# Altium footprint library KHOEMACH_PCBLIB.PcbLib: 17 footprints (part 1 of 2)
Each footprint in its own frame and in the unit in brackets; x right, y up, seen from the top. Pads: shape width x height; smd on the part's side, far side on the other; paste and mask are expansions set on the pad; w line width, h text height; cw(c..) or ccw(c..) is an arc to the next point about the centre after c.
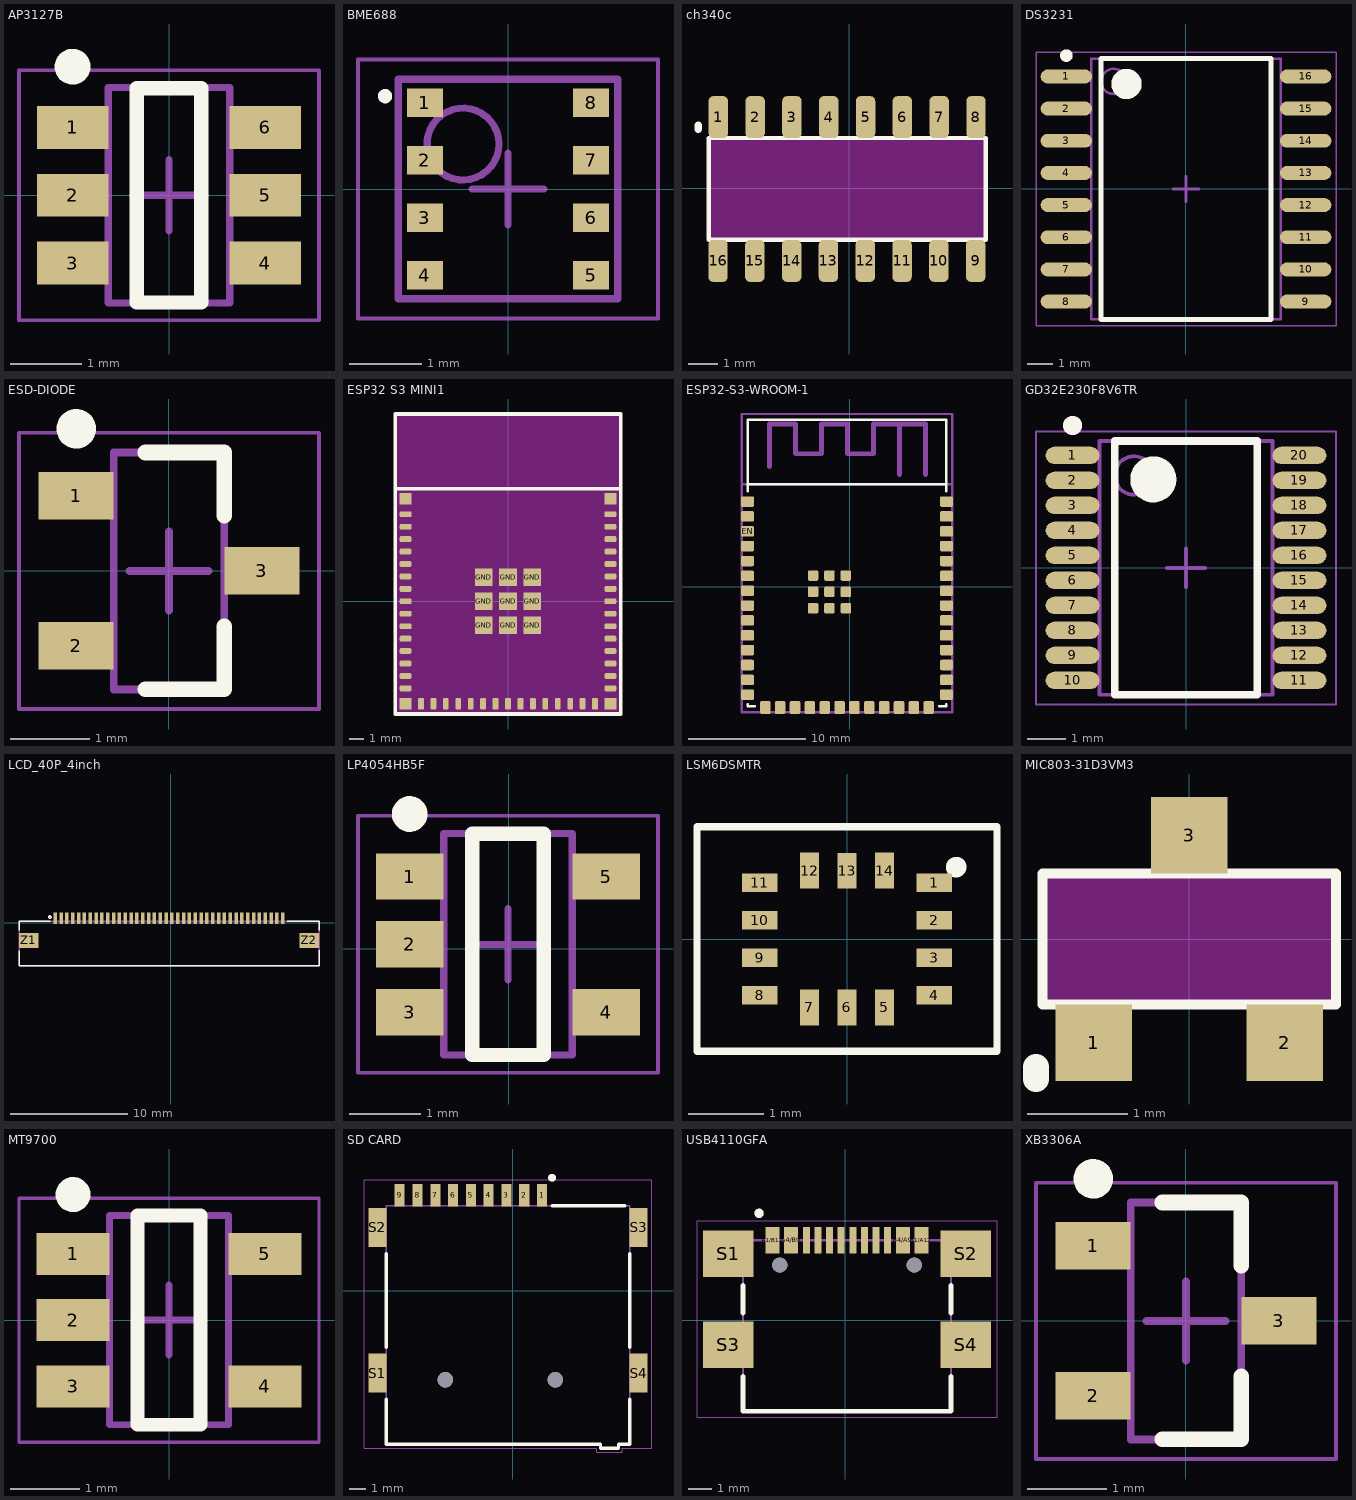
[diagram p0: the footprints below, top view; thin cyan lines are the x and y axes]

## AP3127B [mm] "SOT23, 6-Leads, Body 2,92x2,80mm, Pitch 0,95mm, IPC Medium Density"
height 1.05
pads (6):
  rect 1x0.6 smd: 1(-1.35,0.95) 2(-1.35,0) 3(-1.35,-0.95) 4(1.35,-0.95) 5(1.35,0) 6(1.35,0.95)
Top Overlay:
  circle w0.25: c-1.35,1.8 r0.125
  lines w0.2: -0.45,-1.5 -0.45,1.5 0.45,1.5 0.45,-1.5 -0.45,-1.5
Mechanical 13:
  lines w0.1: -0.85,-1.51 0.85,-1.51 0.85,1.51 -0.85,1.51 -0.85,-1.51
Mechanical 15:
  lines w0.05: -2.1,-1.75 2.1,-1.75 2.1,1.75 -2.1,1.75 -2.1,-1.75
  lines w0.1: -0.5,0 0.5,0 ; 0,-0.5 0,0.5
3D body: height 1.25, standoff 1.05, extent -0.85,-1.51 0.85,1.51
3D body "User Library-SOT-23-6.STEP": height 1.09, standoff 0, extent -1.213,-1.397 1.213,1.397

## BME688 [mm]
pads (8):
  rect 0.5x0.4 smd: 1(-1.163,1.202) 2(-1.163,0.402) 3(-1.163,-0.398) 4(-1.163,-1.198) 5(1.149,-1.198) 6(1.149,-0.398) 7(1.149,0.402) 8(1.149,1.202)
Top Overlay:
  circle w0.1: c-1.715,1.292 r0.05
Mechanical 13:
  circle w0.1: c-0.632,0.627 r0.5
  lines w0.1: -1.532,-1.523 -1.532,1.527 1.518,1.527 1.518,-1.523 -1.532,-1.523
Mechanical 15:
  lines w0.05: -2.092,-1.798 -2.092,1.802 2.078,1.802 2.078,-1.798 -2.092,-1.798
  lines w0.1: -0.507,0.002 0.493,0.002 ; -0.007,-0.498 -0.007,0.502
3D body "User Library-10001378_Bosch_BME688.STEP": height 1, standoff -0.05, extent -1.531,-1.523 1.518,1.527

## ch340c [mm] "chip"
pads (16):
  rrect50% 0.67x1.45 smd: 1(-4.52,2.445) 2(-3.25,2.445) 3(-1.98,2.445) 4(-0.71,2.445) 5(0.56,2.445) 6(1.83,2.445) 7(3.1,2.445) 8(4.37,2.445) 9(4.36,-2.514) 10(3.09,-2.514) 11(1.82,-2.514) 12(0.55,-2.514) 13(-0.72,-2.514) 14(-1.99,-2.514) 15(-3.26,-2.514) 16(-4.53,-2.514)
Top Layer keep-out:
  rectangle: -4.855,-1.78 4.705,1.728
Top Overlay:
  lines w0.15: -4.855,-1.78 4.705,-1.78 4.705,1.728 -4.855,1.728 -4.855,-1.78
  lines w0.254: -5.207,2.032 -5.207,2.159
3D body "CH340C--3DModel-STEP-1.STEP": height 1.8, standoff 0, extent -5,-3 5,3

## DS3231 [mm]
pads (16):
  oval 2.032x0.55 smd: 1(-4.72,4.426) 2(-4.72,3.156) 3(-4.72,1.886) 4(-4.72,0.616) 5(-4.72,-0.654) 6(-4.72,-1.924) 7(-4.72,-3.194) 8(-4.72,-4.464) 9(4.73,-4.464) 10(4.73,-3.194) 11(4.73,-1.924) 12(4.73,-0.654) 13(4.73,0.616) 14(4.73,1.886) 15(4.73,3.156) 16(4.73,4.426)
Top Overlay:
  circle w0.6: c-2.345,4.131 r0.3
  circle w0.25: c-4.72,5.251 r0.125
  lines w0.2: -3.345,-5.169 3.355,-5.169 3.355,5.131 -3.345,5.131 -3.345,-5.169
Mechanical 13:
  circle w0.1: c-2.845,4.231 r0.5
  lines w0.1: -3.745,-5.169 3.755,-5.169 3.755,5.131 -3.745,5.131 -3.745,-5.169
Mechanical 15:
  lines w0.05: -5.92,-5.419 5.93,-5.419 5.93,5.381 -5.92,5.381 -5.92,-5.419
  lines w0.1: -0.495,-0.019 0.505,-0.019 ; 0.005,-0.519 0.005,0.481
3D body "User Library-SO-16W.STEP": height 2.48, standoff 0, extent -5.15,-5.184 5.161,5.146

## ESD-DIODE [mm] "CESDBLC5V0AP-SOT23"
height 1.15
pads (3):
  rect 0.95x0.6 smd: 1(-1.175,0.95) 2(-1.175,-0.95) 3(1.175,0)
Top Overlay:
  circle w0.25: c-1.175,1.8 r0.125
  lines w0.2: -0.3,-1.5 0.7,-1.5 0.7,-0.7 ; -0.3,1.5 0.7,1.5 0.7,0.7
Mechanical 13:
  lines w0.1: -0.7,-1.5 0.7,-1.5 0.7,1.5 -0.7,1.5 -0.7,-1.5
Mechanical 15:
  lines w0.05: -1.9,-1.75 1.9,-1.75 1.9,1.75 -1.9,1.75 -1.9,-1.75
  lines w0.1: -0.5,0 0.5,0 ; 0,-0.5 0,0.5
3D body: height 1.15, standoff 0.1, extent -0.7,-1.5 0.7,1.5

## ESP32 S3 MINI1 [mm]
pads (58):
  rrect50% 0.8x0.4 smd mask+0: 3.3(-7,4.25) EN(7,5.95) GND(-7,5.1) GND(-7,5.95) GND(7,3.4) GND(7,4.25) IO0(-7,3.4) IO1(-7,2.55) IO2(-7,1.7) IO3(-7,0.85) IO4(-7,0) IO5(-7,-0.85) IO6(-7,-1.7) IO7(-7,-2.55) IO8(-7,-3.4) IO9(-7,-4.25) IO10(-7,-5.1) IO11(-7,-5.95) IO35(7,-5.95) IO36(7,-5.1) IO37(7,-4.25) IO38(7,-3.4) IO39(7,-2.55) IO40(7,-1.7) IO41(7,-0.85) IO42(7,0) IO45(7,2.55) IO46(7,5.1) RX(7,1.7) TX(7,0.85)
  rect 0.8x0.8 smd mask+0: GND(-7,-7) GND(-7,7) GND(7,-7) GND(7,7)
  rect 1.2x1.2 smd mask+0: GND(-1.65,-1.65) GND(-1.65,0) GND(-1.65,1.65) GND(0,-1.65) GND(0,0) GND(0,1.65) GND(1.65,-1.65) GND(1.65,0) GND(1.65,1.65)
  rrect50% 0.4x0.8 smd mask+0: IO12(-5.95,-7) IO13(-5.1,-7) IO14(-4.25,-7) IO15(-3.4,-7) IO16(-2.55,-7) IO17(-1.7,-7) IO18(-0.85,-7) IO19(0,-7) IO20(0.85,-7) IO21(1.7,-7) IO26(2.55,-7) IO33(4.25,-7) IO34(5.1,-7) IO47(3.4,-7) IO48(5.95,-7)
Top Layer keep-out:
  rectangle: -7.7,7.7 7.7,12.8
  rectangle: -7.7,-7.7 7.7,7.7
Top Overlay:
  lines w0.254: -7.7,7.7 7.7,7.7 ; -7.7,-7.7 7.7,-7.7 7.7,12.8 -7.7,12.8 -7.7,-7.7
3D body "User Library-ESP32-S3-MINI-1.STEP": height 2.4, standoff -0.02, extent -7.7,-7.71 7.7,12.79

## ESP32-S3-WROOM-1 [mm]
pads (49):
  rrect30% 1.1x0.9 smd: 3.3V(-8.752,6.008) EN(-8.752,4.738) GND(-8.752,7.278) GND(8.248,7.278) IO0(8.248,-9.232) IO1(8.248,6.008) IO2(8.248,4.738) IO4(-8.752,3.468) IO5(-8.752,2.198) IO6(-8.752,0.928) IO7(-8.752,-0.342) IO8(-8.752,-6.692) IO15(-8.752,-1.612) IO16(-8.752,-2.882) IO17(-8.752,-4.152) IO18(-8.752,-5.422) IO19(-8.752,-7.962) IO20(-8.752,-9.232) IO35(8.248,-7.962) IO36(8.248,-6.692) IO37(8.248,-5.422) IO38(8.248,-4.152) IO39(8.248,-2.882) IO40(8.248,-1.612) IO41(8.248,-0.342) IO42(8.248,0.928) RX0(8.248,2.198) TX0(8.248,3.468)
  rrect30% 0.9x0.9 smd: GND(-3.152,-1.842) GND(-3.152,-0.442) GND(-3.152,0.958) GND(-1.752,-1.842) GND(-1.752,-0.442) GND(-1.752,0.958) GND(-0.352,-1.842) GND(-0.352,-0.442) GND(-0.352,0.958)
  rrect30% 0.9x1.1 smd: IO3(-7.237,-10.332) IO9(-4.697,-10.332) IO10(-3.427,-10.332) IO11(-2.157,-10.332) IO12(-0.887,-10.332) IO13(0.383,-10.332) IO14(1.653,-10.332) IO21(2.923,-10.332) IO45(6.733,-10.332) IO46(-5.967,-10.332) IO47(4.193,-10.332) IO48(5.463,-10.332)
Top Overlay:
  lines w0.203: -8.752,-10.032 -8.752,-10.232 -8.152,-10.232 ; -8.752,8.168 -8.752,8.768 ; 7.648,-10.232 8.248,-10.232 8.248,-10.032 ; 8.248,8.168 8.248,8.768 ; -8.752,8.768 -8.752,14.268 8.248,14.268 8.248,8.768 ; -8.752,8.768 8.248,8.768
Mechanical 13:
  lines w0.203: -9.252,8.768 -9.252,-10.732 8.748,-10.732 8.748,8.768 ; -9.252,8.768 -9.252,14.768 8.748,14.768 8.748,8.768 ; -9.252,8.768 8.748,8.768
  lines w0.406: -6.872,10.268 -6.872,13.911 -4.65,13.911 -4.65,11.371 -2.427,11.371 -2.427,13.911 -0.205,13.911 -0.205,11.371 2.018,11.371 2.018,13.911 4.24,13.911 ; 4.24,9.568 4.24,13.911 ; 6.463,9.568 6.463,13.911 4.24,13.911
3D body "step_temp.STEP": height 3.25, standoff 0, extent -9.252,-10.706 8.748,14.794

## GD32E230F8V6TR [mm] "TSOP, 20-Leads, Body 6,50x4,40mm, Pitch 0,65mm, IPC Medium Density"
height 1.2
pads (20):
  oval 1.4x0.45 smd: 1(-2.95,2.925) 2(-2.95,2.275) 3(-2.95,1.625) 4(-2.95,0.975) 5(-2.95,0.325) 6(-2.95,-0.325) 7(-2.95,-0.975) 8(-2.95,-1.625) 9(-2.95,-2.275) 10(-2.95,-2.925) 11(2.95,-2.925) 12(2.95,-2.275) 13(2.95,-1.625) 14(2.95,-0.975) 15(2.95,-0.325) 16(2.95,0.325) 17(2.95,0.975) 18(2.95,1.625) 19(2.95,2.275) 20(2.95,2.925)
Top Overlay:
  circle w0.25: c-2.95,3.7 r0.125
  circle w0.6: c-0.85,2.3 r0.3
  lines w0.2: -1.85,-3.3 -1.85,3.3 1.85,3.3 1.85,-3.3 -1.85,-3.3
Mechanical 13:
  circle w0.1: c-1.35,2.4 r0.5
  lines w0.1: -2.25,-3.3 -2.25,3.3 2.25,3.3 2.25,-3.3 -2.25,-3.3
Mechanical 15:
  lines w0.05: -3.9,-3.55 -3.9,3.55 3.9,3.55 3.9,-3.55 -3.9,-3.55
  lines w0.1: -0.5,0 0.5,0 ; 0,-0.5 0,0.5
3D body: height 1.2, standoff 0.1, extent -2.25,-3.3 2.25,3.3

## LCD_40P_4inch [mm]
pads (42):
  rect 0.3x1 smd: 1(-9.909,0.376) 2(-9.409,0.376) 3(-8.909,0.376) 4(-8.409,0.376) 5(-7.909,0.376) 6(-7.409,0.376) 7(-6.909,0.376) 8(-6.409,0.376) 9(-5.909,0.376) 10(-5.409,0.376) 11(-4.909,0.376) 12(-4.409,0.376) 13(-3.909,0.376) 14(-3.409,0.376) 15(-2.909,0.376) 16(-2.409,0.376) 17(-1.909,0.376) 18(-1.409,0.376) 19(-0.909,0.376) 20(-0.409,0.376) 21(0.091,0.376) 22(0.591,0.376) 23(1.091,0.376) 24(1.591,0.376) 25(2.091,0.376) 26(2.591,0.376) 27(3.091,0.376) 28(3.591,0.376) 29(4.091,0.376) 30(4.591,0.376) 31(5.091,0.376) 32(5.591,0.376) 33(6.091,0.376) 34(6.591,0.376) 35(7.091,0.376) 36(7.591,0.376) 37(8.091,0.376) 38(8.591,0.376) 39(9.091,0.376) 40(9.591,0.376)
  rect 1.65x1.3 smd: Z1(-12.184,-1.524) Z2(11.866,-1.524)
Top Overlay:
  circle w0.127: c-10.359,0.476 r0.1
  lines w0.127: -13.009,-2.414 -13.009,-3.674 12.691,-3.674 12.691,-2.364 ; -13.009,-0.664 -13.009,0.126 -10.329,0.126 ; 9.951,0.126 12.691,0.126 12.691,-0.644
Mechanical 13:
  lines w0.127: -13.009,-3.674 12.691,-3.674 12.691,0.126 -13.009,0.126 -13.009,-3.674
3D body "687140183622.stp": height 0.64, standoff -0.65, extent -13.009,-3.554 12.691,0.696

## LP4054HB5F [mm] "SOT23-5"
pads (5):
  rect 0.95x0.65 smd: 1(-1.383,1.015) 2(-1.383,0.065) 3(-1.383,-0.885) 4(1.367,-0.885) 5(1.367,1.015)
Top Overlay:
  circle w0.25: c-1.383,1.89 r0.125
  lines w0.2: -0.508,-1.485 0.492,-1.485 0.492,1.615 -0.508,1.615 -0.508,-1.485
Mechanical 13:
  lines w0.1: -0.908,-1.485 -0.908,1.615 0.892,1.615 0.892,-1.485 -0.908,-1.485
Mechanical 15:
  lines w0.05: -2.108,-1.735 -2.108,1.865 2.092,1.865 2.092,-1.735 -2.108,-1.735
  lines w0.1: -0.508,0.065 0.492,0.065 ; -0.008,-0.435 -0.008,0.565
3D body: height 1.1, standoff 0.15, extent -0.908,-1.485 0.892,1.615

## LSM6DSMTR [mm]
pads (14):
  rect 0.475x0.25 smd mask+0: 1(1.162,0.75) 2(1.162,0.25) 3(1.162,-0.25) 4(1.162,-0.75) 8(-1.162,-0.75) 9(-1.162,-0.25) 10(-1.162,0.25) 11(-1.162,0.75)
  rect 0.25x0.475 smd mask+0: 5(0.5,-0.913) 6(0,-0.913) 7(-0.5,-0.913) 12(-0.5,0.913) 13(0,0.913) 14(0.5,0.913)
Top Overlay:
  circle w0.254: c1.456,0.958 r0.011
  lines w0.1: -2,-1.5 -2,1.5 -1.5,1.5 1.5,1.5 2,1.5 2,-1.5 -2,-1.5
3D body "LGA-14L_2P5X3X0P83_STM.step": height 0.87, standoff 0, extent -1.549,-1.295 1.549,1.295

## MIC803-31D3VM3 [mm]
pads (3):
  rect 0.76x0.76 smd paste+0 mask+0.05: 1(-0.95,-1.03) 2(0.95,-1.03) 3(0,1.03)
Top Layer keep-out:
  rectangle: -1.46,-0.65 1.46,0.65
Top Overlay:
  lines w0.1: -1.46,-0.65 -1.46,0.65 1.46,0.65 1.46,-0.65 -1.46,-0.65
  lines w0.254: -1.524,-1.397 -1.524,-1.27
3D body "SOT-23_M3_MCH.step": height 1.12, standoff 0, extent -1.524,-1.321 1.524,1.321

## MT9700 [mm]
height 1.15
pads (5):
  rect 1.05x0.6 smd: 1(-1.375,0.95) 2(-1.375,0) 3(-1.375,-0.95) 4(1.375,-0.95) 5(1.375,0.95)
Top Overlay:
  circle w0.25: c-1.375,1.8 r0.125
  lines w0.2: -0.45,-1.5 0.45,-1.5 0.45,1.5 -0.45,1.5 -0.45,-1.5
Mechanical 13:
  lines w0.1: -0.85,-1.5 -0.85,1.5 0.85,1.5 0.85,-1.5 -0.85,-1.5
Mechanical 15:
  lines w0.05: -2.15,-1.75 -2.15,1.75 2.15,1.75 2.15,-1.75 -2.15,-1.75
  lines w0.1: -0.5,0 0.5,0 ; 0,-0.5 0,0.5
3D body: height 1.15, standoff 0.1, extent -0.85,-1.5 0.85,1.5
3D body "MT9700.stp": height 1.35, standoff 0, extent -1.4,-1.45 1.4,1.45

## SD CARD [mm]
pads (15):
  rect 0.62x1.4 smd: 1(1.817,5.912) 2(0.717,5.912) 3(-0.383,5.912) 4(-1.483,5.912) 5(-2.583,5.912) 6(-3.683,5.912) 7(-4.783,5.912) 8(-5.883,5.912) 9(-6.983,5.912)
  rect 1.1x2.4 smd: S1(-8.363,-5.088) S2(-8.363,3.912) S3(7.787,3.912) S4(7.787,-5.088)
  round 0.95 hole 0.95 unplated: ""(-4.163,-5.508) ""(2.637,-5.508)
Top Overlay:
  circle w0.24: c2.437,6.992 r0.12
  lines w0.2: -7.813,-6.708 -7.813,-9.488 5.437,-9.488 5.437,-9.738 6.537,-9.738 6.537,-9.488 7.237,-9.488 7.237,-6.708 ; -7.813,-3.508 -7.813,2.292 ; 2.437,5.262 6.937,5.262 ; 7.237,-3.508 7.237,2.292
Mechanical 13:
  circle w0.24: c2.437,6.992 r0.12
  lines w0.1: -7.813,-9.488 5.437,-9.488 5.437,-9.738 6.537,-9.738 6.537,-9.488 7.237,-9.488 7.237,5.262 -7.813,5.262 -7.813,-9.488
Mechanical 15:
  lines w0.05: -9.163,-9.738 -9.163,6.862 8.587,6.862 8.587,-9.738 6.787,-9.738 6.787,-9.988 5.187,-9.988 5.187,-9.738 -9.163,-9.738
3D body "MEM2075-00-140-01-A--3DModel-STEP-56544.STEP": height 1.45, standoff -0.6, extent -8.555,-9.644 7.885,6.206

## USB4110GFA [mm]
pads (18):
  rect 0.6x1.15 smd: A1/B12(-3.13,3.443) A4/B9(-2.33,3.443) B1/A12(3.27,3.443) B4/A9(2.47,3.443)
  rect 0.3x1.15 smd: A5(-1.18,3.443) A6(-0.18,3.443) A7(0.32,3.443) A8(1.32,3.443) B5(1.82,3.443) B6(0.82,3.443) B7(-0.68,3.443) B8(-1.68,3.443)
  rect 2.18x2 smd: S1(-5.04,2.868) S2(5.18,2.868) S3(-5.04,-1.062) S4(5.18,-1.062)
  round 0.65 hole 0.65 unplated: ""(-2.82,2.368) ""(2.96,2.368)
Top Overlay:
  circle w0.2: c-3.71,4.598 r0.1
  lines w0.2: -4.4,-2.422 -4.4,-3.912 4.54,-3.912 4.54,-2.422 ; -4.4,0.298 -4.4,1.508 ; 4.54,0.298 4.54,1.508
Mechanical 13:
  circle w0.2: c-3.71,4.598 r0.1
  lines w0.1: -4.4,-3.912 4.54,-3.912 4.54,3.438 -4.4,3.438 -4.4,-3.912
Mechanical 15:
  lines w0.05: -6.38,-4.162 -6.38,4.268 6.52,4.268 6.52,-4.162 -6.38,-4.162
3D body "step_temp.STEP": height 3.26, standoff -0.63, extent -5.58,-3.912 5.72,3.788

## XB3306A [mm]
height 1.1
pads (3):
  rect 0.95x0.6 smd: 1(-1.175,0.95) 2(-1.175,-0.95) 3(1.175,0)
Top Overlay:
  circle w0.25: c-1.175,1.8 r0.125
  lines w0.2: -0.3,-1.5 0.7,-1.5 0.7,-0.7 ; -0.3,1.5 0.7,1.5 0.7,0.7
Mechanical 13:
  lines w0.1: -0.7,-1.5 0.7,-1.5 0.7,1.5 -0.7,1.5 -0.7,-1.5
Mechanical 15:
  lines w0.05: -1.9,-1.75 1.9,-1.75 1.9,1.75 -1.9,1.75 -1.9,-1.75
  lines w0.1: -0.5,0 0.5,0 ; 0,-0.5 0,0.5
3D body: height 1.1, standoff 0.1, extent -0.7,-1.5 0.7,1.5